# Altium footprint library SHDR4W64P0X250_1X4_1246X650X700P.PcbLib: 1 footprints
Each footprint in its own frame and in the unit in brackets; x right, y up, seen from the top. Pads: shape width x height; smd on the part's side, far side on the other; paste and mask are expansions set on the pad; w line width, h text height; cw(c..) or ccw(c..) is an arc to the next point about the centre after c.
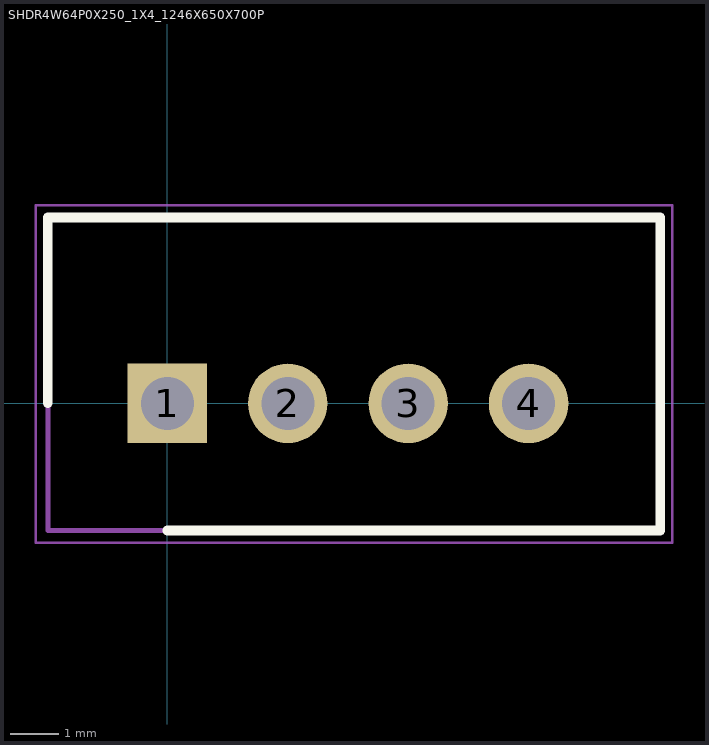
[diagram p0: the footprint, top view; thin cyan lines are the x and y axes]

## SHDR4W64P0X250_1X4_1246X650X700P [mm]
pads (4):
  rect 1.65x1.65 / inner round 1.65 / far side rect 1.65x1.65 hole 1.1: 1(0,0)
  round 1.65 hole 1.1: 2(2.5,0) 3(5,0) 4(7.5,0)
Top Overlay:
  lines w0.2: -2.48,0 -2.48,3.86 10.23,3.86 10.23,-2.64 0,-2.64
Mechanical 15:
  lines w0.1: -2.48,-2.64 -2.48,3.86 10.23,3.86 10.23,-2.64 -2.48,-2.64
Mechanical 20:
  lines w0.05: -2.73,-2.89 -2.73,4.11 10.48,4.11 10.48,-2.89 -2.73,-2.89